# Altium footprint library Heat Sink.PcbLib: 41 footprints (part 1 of 3)
Each footprint in its own frame and in the unit in brackets; x right, y up, seen from the top. Pads: shape width x height; smd on the part's side, far side on the other; paste and mask are expansions set on the pad; w line width, h text height; cw(c..) or ccw(c..) is an arc to the next point about the centre after c.
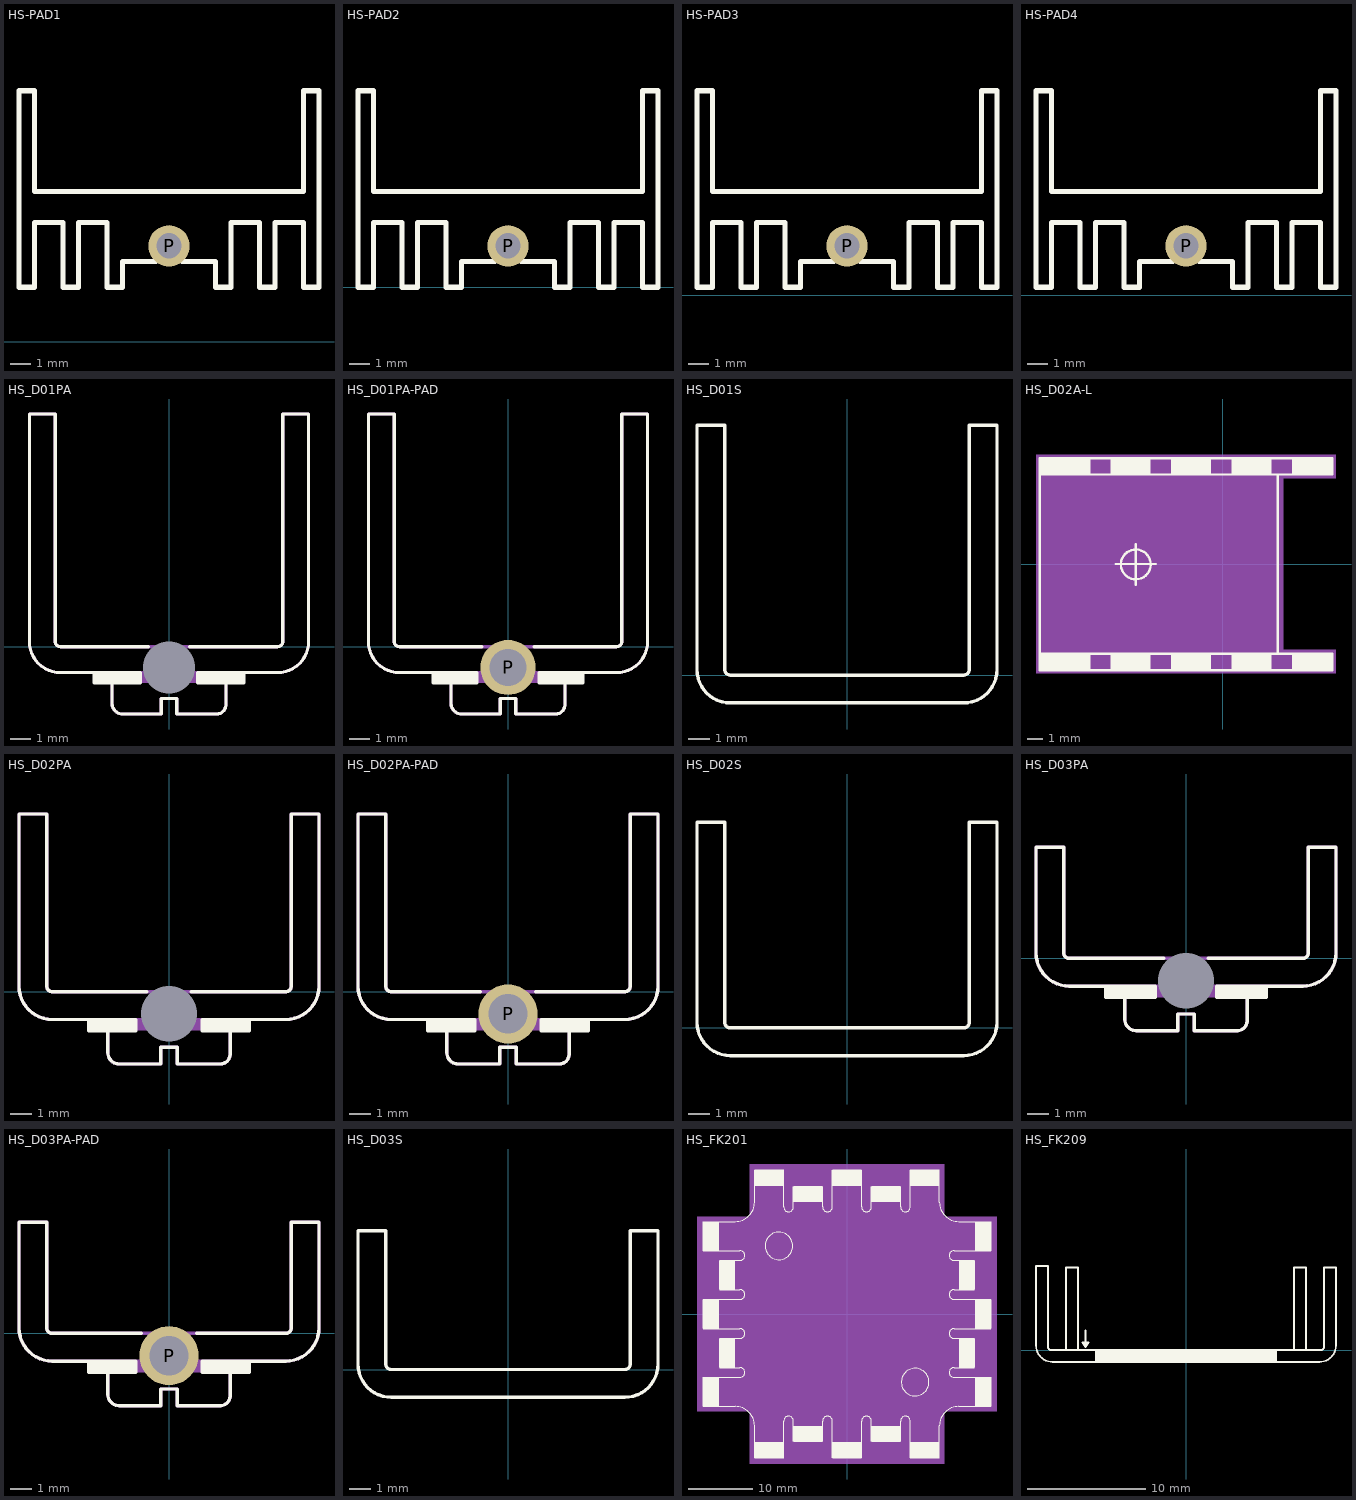
[diagram p0: the footprints below, top view; thin cyan lines are the x and y axes]

## HS-PAD1 [mil]
pads (1):
  round 80 hole 49: P(865,185)
Top Overlay:
  lines w10: 575,105 575,485 605,485 605,290 1125,290 1125,485 1155,485 1155,105 1125,105 1125,230 1070,230 1070,105 1040,105 1040,230 985,230 985,105 955,105 955,155 890,155 ccw(c865,165) 840,155 775,155 775,105 745,105 745,230 690,230 690,105 660,105 660,230 605,230 605,105 575,105
3D body "SW3dPS-heatsink TO126.STEP": height 989.25, standoff -144.61, extent 574.03,61.34 1155.97,486.59

## HS-PAD2 [mil]
pads (1):
  round 80 hole 49: P(640,80)
Top Overlay:
  lines w10: 350,0 350,380 380,380 380,185 900,185 900,380 930,380 930,0 900,0 900,125 845,125 845,0 815,0 815,125 760,125 760,0 730,0 730,50 665,50 ccw(c640,60) 615,50 550,50 550,0 520,0 520,125 465,125 465,0 435,0 435,125 380,125 380,0 350,0
3D body "SW3dPS-heatsink TO126.STEP": height 989.25, standoff -144.61, extent 349.03,-43.66 930.97,381.59

## HS-PAD3 [mil]
pads (1):
  round 80 hole 49: P(4560,95)
Top Overlay:
  lines w10: 4270,15 4300,15 4300,140 4355,140 4355,15 4385,15 4385,140 4440,140 4440,15 4470,15 4470,65 4535,65 cw(c4560,75) 4585,65 4650,65 4650,15 4680,15 4680,140 4735,140 4735,15 4765,15 4765,140 4820,140 4820,15 4850,15 4850,395 4820,395 4820,200 4300,200 4300,395 4270,395 4270,15
3D body "SW3dPS-heatsink TO126.STEP": height 989.25, standoff -144.61, extent 4269.03,-28.66 4850.97,396.59

## HS-PAD4 [mil]
pads (1):
  round 80 hole 49: P(330,95)
Top Overlay:
  lines w10: 40,15 40,395 70,395 70,200 590,200 590,395 620,395 620,15 590,15 590,140 535,140 535,15 505,15 505,140 450,140 450,15 420,15 420,65 355,65 ccw(c330,75) 305,65 240,65 240,15 210,15 210,140 155,140 155,15 125,15 125,140 70,140 70,15 40,15
3D body "SW3dPS-heatsink TO126.STEP": height 989.25, standoff -144.61, extent 39.03,-28.66 620.97,396.59

## HS_D01PA [mil]
pads (2):
  round 0 hole 100 unplated: MH(0,-40) MH(0,-40)
Top Overlay:
  rectangle: 55,-70 145,-50
  rectangle: -145,-70 -55,-50
  lines w6: -145,-50 -145,-70 -55,-70 -55,-50 -210,-50 cw(c-210,10) -270,10 -270,450 -220,450 -220,10 ccw(c-210,10) -210,0 -40,0 ; -110,-50 -110,-110 ccw(c-90,-110) -90,-130 -15,-130 -15,-100 15,-100 15,-130 90,-130 ccw(c92,-112) 110.04,-110.43 ; 40,0 210,0 ccw(c210,10) 220,10 220,450 270,450 270,10 cw(c210,10) 210,-50 55,-50 55,-70 145,-70 145,-50 ; 110,-110 110,-50
Mechanical 2:
  rectangle: -145,-70 -55,-50
  rectangle: 55,-70 145,-50
  rectangle: -55,-70 55,-50
  lines w6: -110,-50 -110,-110 ccw(c-90,-110) -90,-130 -15,-130 -15,-100 15,-100 15,-130 90,-130 ccw(c92,-112) 110.04,-110.43 ; 110,-110 110,-50 ; -270,10 ccw(c-210,10) -210,-50 -55,-50 55,-50 210,-50 ccw(c210,10) 270,10 270,450 220,450 220,10 cw(c210,10) 210,0 40,0 -40,0 -210,0 cw(c-210,10) -220,10 -220,450 -270,450 -270,10

## HS_D01PA-PAD [mil]
pads (1):
  round 106.5 hole 71: P(0,-40)
Top Overlay:
  rectangle: 60,-70 145,-50
  rectangle: -145,-70 -60,-50
  lines w6: -145,-50 -145,-70 -60,-70 -60,-50 -210,-50 cw(c-210,10) -270,10 -270,450 -220,450 -220,10 ccw(c-210,10) -210,0 -50,0 ; -110,-50 -110,-110 ccw(c-90,-110) -90,-130 -15,-130 -15,-100 15,-100 15,-130 90,-130 ccw(c92,-112) 110.04,-110.43 ; 50,0 210,0 ccw(c210,10) 220,10 220,450 270,450 270,10 cw(c210,10) 210,-50 60,-50 60,-70 80,-70 145,-70 145,-50 ; 110,-110 110,-50
Mechanical 2:
  rectangle: -145,-70 -55,-50
  rectangle: 55,-70 145,-50
  rectangle: -55,-70 55,-50
  lines w6: -110,-50 -110,-110 ccw(c-90,-110) -90,-130 -15,-130 -15,-100 15,-100 15,-130 90,-130 ccw(c92,-112) 110.04,-110.43 ; 110,-110 110,-50 ; -270,10 ccw(c-210,10) -210,-50 -55,-50 55,-50 210,-50 ccw(c210,10) 270,10 270,450 220,450 220,10 cw(c210,10) 210,0 40,0 -40,0 -210,0 cw(c-210,10) -220,10 -220,450 -270,450 -270,10

## HS_D01S [mil]
Top Overlay:
  lines w6: -270,10 ccw(c-210,10) -210,-50 210,-50 ccw(c210,10) 270,10 270,450 220,450 220,10 cw(c210,10) 210,0 -210,0 cw(c-210,10) -220,10 -220,450 -270,450 -270,10

## HS_D02A-L [mil]
Top Overlay:
  circle w6: c-215,-1 r37
  rectangle: 172,222 272,262
  rectangle: 22,222 122,262
  rectangle: -128,222 -28,262
  rectangle: -278,222 -178,262
  rectangle: -453,222 -328,262
  rectangle: -453,-263 -328,-223
  rectangle: -278,-263 -178,-223
  rectangle: -128,-263 -28,-223
  rectangle: 22,-263 122,-223
  rectangle: 172,-263 272,-223
  lines w6: -265,0 -165,0 ; -215,-51 -215,49 ; -453,-223 137,-223 ; -453,-223 -453,222 ; -453,-223 -453,-263 272,-263 272,-223 137,-223 ; -453,222 137,222 ; -453,222 -453,262 272,262 272,222 137,222 ; 137,-223 137,222
Mechanical 2:
  rectangle: 141.73,-271.6 281.5,-212.6
  rectangle: 141.73,212.6 281.5,271.7
  rectangle: -462.6,-271.6 151.57,271.7
  rectangle: 141.73,-271.6 281.5,-212.6
  rectangle: 141.73,212.6 281.5,271.7
  rectangle: -462.6,-271.6 151.57,271.7

## HS_D02PA [mil]
pads (1):
  round 0 hole 100 unplated: MH(0,-40)
Top Overlay:
  rectangle: 60,-70 145,-50
  rectangle: -145,-70 -60,-50
  lines w6: -145,-50 -145,-70 -60,-70 -60,-50 -210,-50 cw(c-210,10) -270,10 -270,320 -220,320 -220,10 ccw(c-210,10) -210,0 -40,0 ; -110,-50 -110,-110 ccw(c-90,-110) -90,-130 -15,-130 -15,-100 15,-100 15,-130 90,-130 ccw(c92,-112) 110.04,-110.43 ; 40,0 210,0 ccw(c210,10) 220,10 220,320 270,320 270,10 cw(c210,10) 210,-50 60,-50 60,-70 145,-70 145,-50 ; 110,-110 110,-50
Mechanical 2:
  rectangle: -145,-70 -55,-50
  rectangle: 55,-70 145,-50
  rectangle: -55,-70 55,-50
  lines w6: -110,-50 -110,-110 ccw(c-90,-110) -90,-130 -15,-130 -15,-100 15,-100 15,-130 90,-130 ccw(c92,-112) 110.04,-110.43 ; 110,-110 110,-50 ; -270,10 ccw(c-210,10) -210,-50 -55,-50 55,-50 210,-50 ccw(c210,10) 270,10 270,320 220,320 220,10 cw(c210,10) 210,0 40,0 -40,0 -210,0 cw(c-210,10) -220,10 -220,320 -270,320 -270,10

## HS_D02PA-PAD [mil]
pads (1):
  round 106.5 hole 71: P(0,-40)
Top Overlay:
  rectangle: -145,-70 -60,-50
  rectangle: 60,-70 145,-50
  lines w6: -145,-50 -145,-70 -60,-70 -60,-50 -210,-50 cw(c-210,10) -270,10 -270,320 -220,320 -220,10 ccw(c-210,10) -210,0 -50,0 ; -110,-50 -110,-110 ccw(c-90,-110) -90,-130 -15,-130 -15,-100 15,-100 15,-130 90,-130 ccw(c92,-112) 110.04,-110.43 ; 50,0 210,0 ccw(c210,10) 220,10 220,320 270,320 270,10 cw(c210,10) 210,-50 60,-50 60,-70 145,-70 145,-50 ; 110,-110 110,-50
Mechanical 2:
  rectangle: -55,-70 55,-50
  rectangle: 55,-70 145,-50
  rectangle: -145,-70 -55,-50
  lines w6: -110,-50 -110,-110 ccw(c-90,-110) -90,-130 -15,-130 -15,-100 15,-100 15,-130 90,-130 ccw(c92,-112) 110.04,-110.43 ; 110,-110 110,-50 ; -270,10 ccw(c-210,10) -210,-50 -55,-50 55,-50 210,-50 ccw(c210,10) 270,10 270,320 220,320 220,10 cw(c210,10) 210,0 40,0 -40,0 -210,0 cw(c-210,10) -220,10 -220,320 -270,320 -270,10

## HS_D02S [mil]
Top Overlay:
  lines w6: -270,10 ccw(c-210,10) -210,-50 210,-50 ccw(c210,10) 270,10 270,370 220,370 220,10 cw(c210,10) 210,0 -210,0 cw(c-210,10) -220,10 -220,370 -270,370 -270,10

## HS_D03PA [mil]
pads (1):
  round 0 hole 100 unplated: MH(0,-40)
Top Overlay:
  rectangle: 55,-70 145,-50
  rectangle: -145,-70 -55,-50
  lines w6: -145,-50 -145,-70 -55,-70 -55,-50 -210,-50 cw(c-210,10) -270,10 -270,200 -220,200 -220,10 ccw(c-210,10) -210,0 -40,0 ; -110,-50 -110,-110 ccw(c-90,-110) -90,-130 -15,-130 -15,-100 15,-100 15,-130 90,-130 ccw(c92,-112) 110.04,-110.43 ; 40,0 210,0 ccw(c210,10) 220,10 220,200 270,200 270,10 cw(c210,10) 210,-50 55,-50 55,-70 145,-70 145,-50 ; 110,-110 110,-50
Mechanical 2:
  rectangle: -145,-70 -55,-50
  rectangle: 55,-70 145,-50
  rectangle: -55,-70 55,-50
  lines w6: -110,-50 -110,-110 ccw(c-90,-110) -90,-130 -15,-130 -15,-100 15,-100 15,-130 90,-130 ccw(c92,-112) 110.04,-110.43 ; 110,-110 110,-50 ; -270,10 ccw(c-210,10) -210,-50 -55,-50 55,-50 210,-50 ccw(c210,10) 270,10 270,200 220,200 220,10 cw(c210,10) 210,0 40,0 -40,0 -210,0 cw(c-210,10) -220,10 -220,200 -270,200 -270,10

## HS_D03PA-PAD [mil]
pads (1):
  round 106.5 hole 71: P(0,-40)
Top Overlay:
  rectangle: 60,-70 145,-50
  rectangle: -145,-70 -60,-50
  lines w6: -145,-50 -145,-70 -80,-70 -60,-70 -60,-50 -210,-50 cw(c-210,10) -270,10 -270,200 -220,200 -220,10 ccw(c-210,10) -210,0 -50,0 ; -110,-50 -110,-110 ccw(c-90,-110) -90,-130 -15,-130 -15,-100 15,-100 15,-130 90,-130 ccw(c92,-112) 110.04,-110.43 ; 50,0 210,0 ccw(c210,10) 220,10 220,200 270,200 270,10 cw(c210,10) 210,-50 60,-50 60,-70 145,-70 145,-50 ; 110,-110 110,-50
Mechanical 2:
  rectangle: -145,-70 -55,-50
  rectangle: 55,-70 145,-50
  rectangle: -55,-70 55,-50
  lines w6: -110,-50 -110,-110 ccw(c-90,-110) -90,-130 -15,-130 -15,-100 15,-100 15,-130 90,-130 ccw(c92,-112) 110.04,-110.43 ; 110,-110 110,-50 ; -270,10 ccw(c-210,10) -210,-50 -55,-50 55,-50 210,-50 ccw(c210,10) 270,10 270,200 220,200 220,10 cw(c210,10) 210,0 40,0 -40,0 -210,0 cw(c-210,10) -220,10 -220,200 -270,200 -270,10

## HS_D03S [mil]
Top Overlay:
  lines w6: -270,10 ccw(c-210,10) -210,-50 210,-50 ccw(c210,10) 270,10 270,250 220,250 220,10 cw(c210,10) 210,0 -210,0 cw(c-210,10) -220,10 -220,250 -270,250 -270,10

## HS_FK201 [mil]
Top Overlay:
  circle w6: c-420,420 r85
  circle w6: c420,-420 r85
  rectangle: -330,690 -150,790
  rectangle: -570,790 -390,890
  rectangle: -790,150 -690,330
  rectangle: -890,390 -790,570
  rectangle: 150,-790 330,-690
  rectangle: 390,-890 570,-790
  rectangle: 690,-330 790,-150
  rectangle: 790,-570 890,-390
  rectangle: -790,-330 -690,-150
  rectangle: -890,-570 -790,-390
  rectangle: -890,-90 -790,90
  rectangle: -330,-790 -150,-690
  rectangle: -90,-890 90,-790
  rectangle: -570,-890 -390,-790
  rectangle: 690,150 790,330
  rectangle: 790,390 890,570
  rectangle: 790,-90 890,90
  rectangle: 150,690 330,790
  rectangle: -90,790 90,890
  rectangle: 390,790 570,890
  lines w6: -885,-570 -690,-570 cw(c-690,-690) -570,-690 -570,-885 ; -885,-390 -660,-390 ccw(c-660,-360) -660,-330 -785,-330 ; -885,-90 -660,-90 cw(c-660,-120) -660,-150 -785,-150 ; -885,90 -660,90 ccw(c-660,120) -660,150 -785,150 ; -885,390 -660,390 cw(c-660,360) -660,330 -785,330 ; -885,570 -690,570 ccw(c-690,690) -570,690 -570,885 ; -390,-885 -390,-660 cw(c-360,-660) -330,-660 -330,-785 ; -390,885 -390,660 ccw(c-360,660) -330,660 -330,785 ; -150,-785 -150,-660 cw(c-120,-660) -90,-660 -90,-885 ; -150,785 -150,660 ccw(c-120,660) -90,660 -90,885 ; 90,-885 90,-660 cw(c120,-660) 150,-660 150,-785 ; 90,885 90,660 ccw(c120,660) 150,660 150,785 ; 330,-785 330,-660 cw(c360,-660) 390,-660 390,-885 ; 330,785 330,660 ccw(c360,660) 390,660 390,885 ; 570,-885 570,-690 cw(c690,-690) 690,-570 885,-570 ; 570,885 570,690 ccw(c690,690) 690,570 885,570 ; 785,-330 660,-330 ccw(c660,-360) 660,-390 885,-390 ; 785,-150 660,-150 cw(c660,-120) 660,-90 885,-90 ; 785,150 660,150 ccw(c660,120) 660,90 885,90 ; 785,330 660,330 cw(c660,360) 660,390 885,390
Mechanical 2:
  rectangle: -600,-925 600,925
  rectangle: -925,-600 925,600
  rectangle: -600,-925 600,925
  rectangle: -925,-600 925,600

## HS_FK209 [mil]
Top Overlay:
  rectangle: -300,-40 300,0
  region: -345,25 -325,25 -335,10
  lines w6: -335,65 -335,25 ; -400,0 -400,275 -360,275 -360,0 ; -400,0 -450,0 cw(c-450,10) -460,10 -460,280 -500,280 -500,15 ccw(c-445,15) -445,-40 -300,-40 ; -400,0 -360,0 ; -360,0 -300,0 ; -335,25 -345,25 -335,10 -325,25 -335,25 ; -300,-40 -300,0 ; -300,-40 300,-40 ; -300,0 300,0 ; 300,-40 300,0 ; 300,-40 445,-40 ccw(c445,15) 500,15 500,275 460,275 460,10 cw(c450,10) 450,0 400,0 ; 300,0 360,0 ; 360,0 360,275 400,275 400,0 ; 360,0 400,0